# EAGLE library part 4XDPST (library comma.ai)
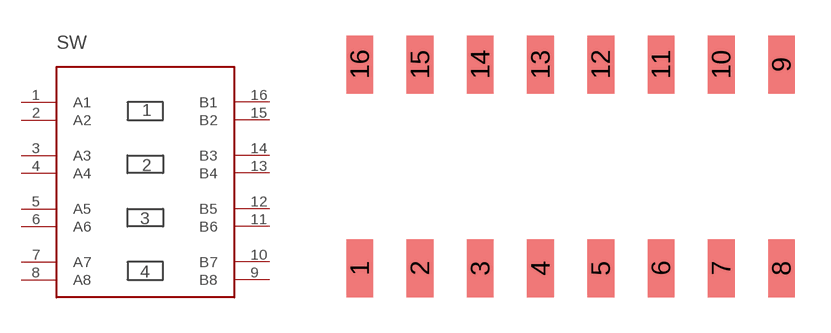
[diagram p39: symbol with the pads of 4-DPST; footprint 4-DPST]

Designator prefix SW

## 4XDPSTSMT  [4-DPST]
1  A1
2  A2
3  A3
4  A4
5  A5
6  A6
7  A7
8  A8
9  B8
10  B7
11  B6
12  B5
13  B4
14  B3
15  B2
16  B1

## Footprint 4-DPST (pad centres in mm)
smd 1.13 x 2.44: 1 -8.89,-4.3; 2 -6.35,-4.3; 3 -3.81,-4.3; 4 -1.27,-4.3; 5 1.27,-4.3; 6 3.81,-4.3; 7 6.35,-4.3; 8 8.89,-4.3; 9 8.89,4.3; 10 6.35,4.3; 11 3.81,4.3; 12 1.27,4.3; 13 -1.27,4.3; 14 -3.81,4.3; 15 -6.35,4.3; 16 -8.89,4.3